# Altium schematic symbol library DRV8703.SchLib: 1 symbol
Pins are listed as number, name and electrical type; pins without a type are passive.

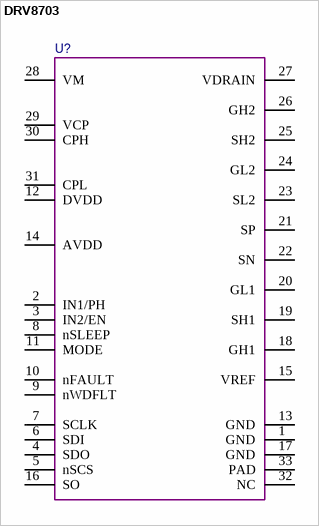
[diagram p0: symbol DRV8703]

## DRV8703
designator U?  (value not drawn)
pins: 1 GND, 2 IN1/PH, 3 IN2/EN, 4 SDO, 5 nSCS, 6 SDI, 7 SCLK, 8 nSLEEP, 9 nWDFLT, 10 nFAULT, 11 MODE, 12 DVDD, 13 GND, 14 AVDD, 15 VREF, 16 SO, 17 GND, 18 GH1, 19 SH1, 20 GL1, 21 SP, 22 SN, 23 SL2, 24 GL2, 25 SH2, 26 GH2, 27 VDRAIN, 28 VM, 29 VCP, 30 CPH, 31 CPL, 32 NC, 33 PAD